# EAGLE library part AT90PWM3 (library avr_modified)
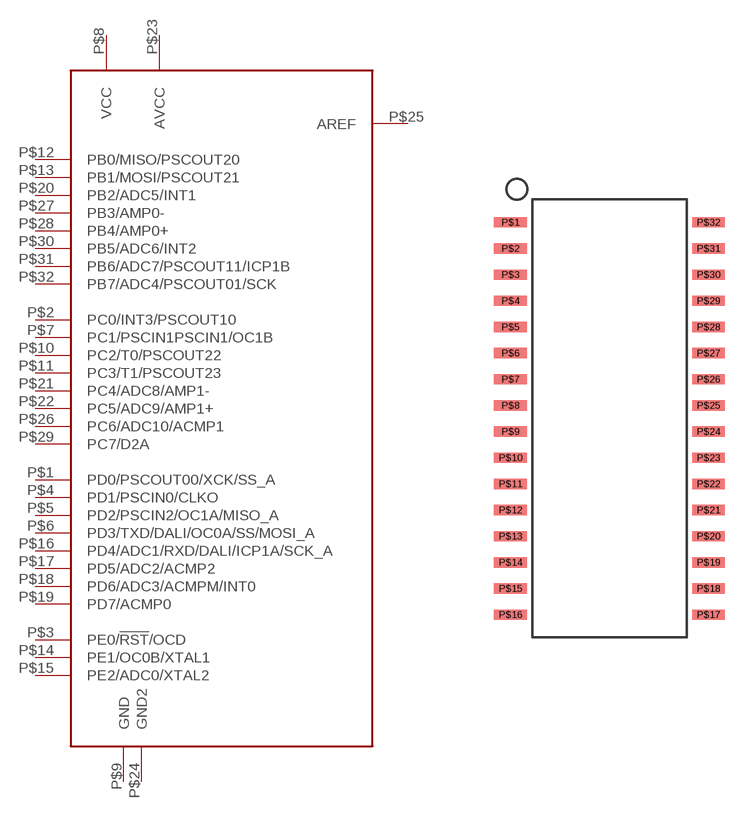
[diagram p81: symbol with the pads of SOIC32; footprint SOIC32]

Designator prefix -

## AT90PWM3  [SOIC32]
P$1  PD0/PSCOUT00/XCK/SS_A
P$2  PC0/INT3/PSCOUT10
P$3  PE0/!RST!/OCD
P$4  PD1/PSCIN0/CLKO
P$5  PD2/PSCIN2/OC1A/MISO_A
P$6  PD3/TXD/DALI/OC0A/SS/MOSI_A
P$7  PC1/PSCIN1PSCIN1/OC1B
P$8  VCC
P$9  GND
P$10  PC2/T0/PSCOUT22
P$11  PC3/T1/PSCOUT23
P$12  PB0/MISO/PSCOUT20
P$13  PB1/MOSI/PSCOUT21
P$14  PE1/OC0B/XTAL1
P$15  PE2/ADC0/XTAL2
P$16  PD4/ADC1/RXD/DALI/ICP1A/SCK_A
P$17  PD5/ADC2/ACMP2
P$18  PD6/ADC3/ACMPM/INT0
P$19  PD7/ACMP0
P$20  PB2/ADC5/INT1
P$21  PC4/ADC8/AMP1-
P$22  PC5/ADC9/AMP1+
P$23  AVCC
P$24  GND2
P$25  AREF
P$26  PC6/ADC10/ACMP1
P$27  PB3/AMP0-
P$28  PB4/AMP0+
P$29  PC7/D2A
P$30  PB5/ADC6/INT2
P$31  PB6/ADC7/PSCOUT11/ICP1B
P$32  PB7/ADC4/PSCOUT01/SCK

## Footprint SOIC32 (pad centres in mm)
smd 1.6 x 0.5: P$1 -3.81,8.89; P$2 -3.81,7.62; P$3 -3.81,6.35; P$4 -3.81,5.08; P$5 -3.81,3.81; P$6 -3.81,2.54; P$7 -3.81,1.27; P$8 -3.81,0; P$9 -3.81,-1.27; P$10 -3.81,-2.54; P$11 -3.81,-3.81; P$12 -3.81,-5.08; P$13 -3.81,-6.35; P$14 -3.81,-7.62; P$15 -3.81,-8.89; P$16 -3.81,-10.16; P$17 5.81,-10.16; P$18 5.81,-8.89; P$19 5.81,-7.62; P$20 5.81,-6.35; P$21 5.81,-5.08; P$22 5.81,-3.81; P$23 5.81,-2.54; P$24 5.81,-1.27; P$25 5.81,0; P$26 5.81,1.27; P$27 5.81,2.54; P$28 5.81,3.81; P$29 5.81,5.08; P$30 5.81,6.35; P$31 5.81,7.62; P$32 5.81,8.89